# Altium footprint library led_7seg_big.PcbLib: 17 footprints (part 2 of 2)
Each footprint in its own frame and in the unit in brackets; x right, y up, seen from the top. Pads: shape width x height; smd on the part's side, far side on the other; paste and mask are expansions set on the pad; w line width, h text height; cw(c..) or ccw(c..) is an arc to the next point about the centre after c.
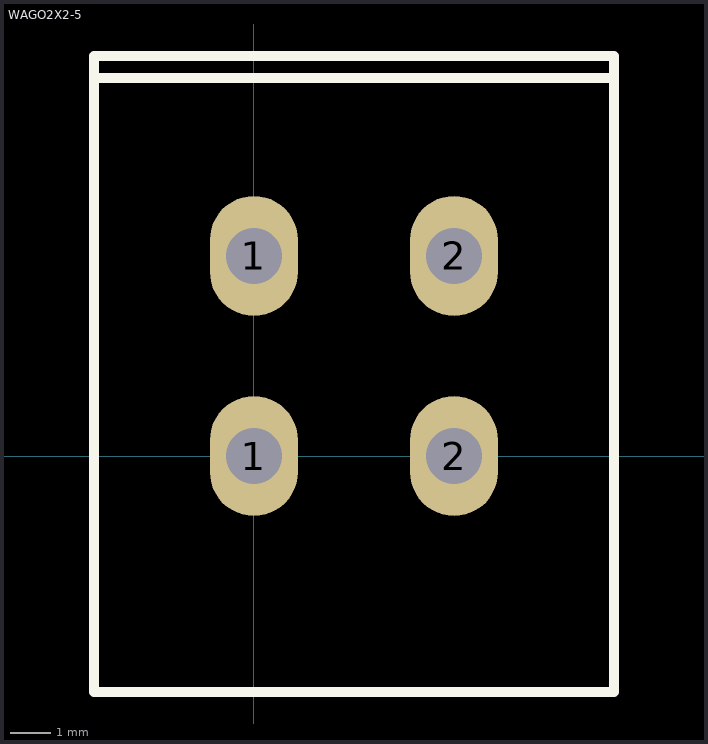
[diagram p1: the footprint, top view; thin cyan lines are the x and y axes]

## WAGO2X2-5 [mm]
pads (4):
  oval 2.2x3 hole 1.4: 1(0,0) 1(0,5) 2(5,0) 2(5,5)
Top Overlay:
  lines w0.25: -4,9.45 9,9.45 ; -4,-5.9 -4,10 9,10 9,-5.9 -4,-5.9